# Altium schematic symbol library Movandi_Schlib1.SchLib: 9 symbols
Pins are listed as number, name and electrical type; pins without a type are passive.

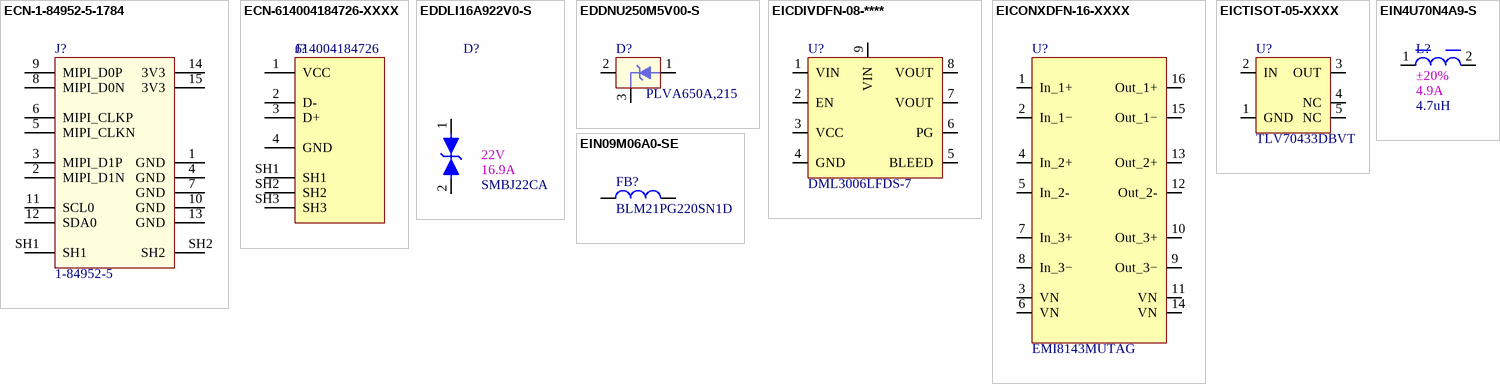
[diagram p0: symbols ECN-1-84952-5-1784 to EIN09M06A0-SE]

## ECN-1-84952-5-1784
designator J?, comment Manufacturer Part Number: 1-84952-5  (hidden comment: CONN FPC BOTTOM 15POS 1.00MM R/A)
Manufacturer: TE Connectivity AMP Connectors; Internal Part Number: ECN-1-84952-5-1784; Vendor Part Number: A101391CT-ND; Vendor Name: Digi-Key; 1st Auxiliary Field: 1.00mm Pitch; 2nd Auxiliary Field: 200V; 3rd Auxiliary Field: RoHS Compliant; 4th Auxiliary Field: 1A; Component Height (mm): 2.56mm; Temp Co: -40°C ~ 85°C; Value: 1-84952-5; Part Type: CONN FPC BOTTOM 15POS 1.00MM R/A
footprint CONN_1-84952-5 (Footprint not found)
pins: 1 GND (power), 2 MIPI_D1N (power), 3 MIPI_D1P (power), 4 GND (power), 5 MIPI_CLKN (power), 6 MIPI_CLKP (power), 7 GND (power), 8 MIPI_D0N (power), 9 MIPI_D0P (power), 10 GND (power), 11 SCL0 (power), 12 SDA0 (power), 13 GND (power), 14 3V3 (power), 15 3V3 (power), SH1 (power), SH2 (power)

## ECN-614004184726-XXXX
designator J?, comment value 614004184726  (hidden comment: CONN RCPT USB2.0 TYPEA 4POS R/A)
Vendor Part Number: 732-10010-ND; Manufacturer: Würth Elektronik; Internal Part Number: ECN-614004184726-XXXX; 1st Auxiliary Field: 30VAC; 2nd Auxiliary Field: 2A; 3rd Auxiliary Field: 5000; Vendor Name: Digi-Key; 4th Auxiliary Field: ROHS3 Compliant; Component Height (mm): 14.2mm; Temp Co: -40°C ~ 85°C; Part Type: CONN RCPT USB2.0 TYPEA 4POS R/A; Manufacturer Part Number: 614004184726
footprint CONN_614004184726 (Footprint not found)
pins: 1 VCC "data input or output (referenced to VCC(B))", 2 D- "Ground", 3 D+ "supply voltage A", 4 GND "data input or output (referenced to VCC(B))", SH1, SH2, SH3

## EDDLI16A922V0-S
designator D?, comment value SMBJ22CA  1st Auxiliary Field: 22V  2nd Auxiliary Field: 16.9A  (hidden comment: TVS DIODE 22V 35.5V DO214AA)
Manufacturer: Littelfuse Inc.; Vendor Part Number: SMBJ22CALFCT-ND; Internal Part Number: EDDLI16A922V0-S; Vendor Name: Digi-Key; 3rd Auxiliary Field: RoHS Compliant; Component Height (mm): 2.61mm; Temp Co: -65°C ~ 150°C (TJ); Part Type: TVS DIODE 22V 35.5V DO214AA; Manufacturer Part Number: SMBJ22CA; 4th Auxiliary Field: *
footprint DOIM475X394X261-2N
pins: 1, 2

## EDDNU250M5V00-S
designator D?, comment value PLVA650A,215  (hidden comment: DIODE ZENER 5V 250MW SOT23)
Manufacturer: Nexperia USA Inc.; Vendor Part Number: 1727-5167-1-ND; Internal Part Number: EDDNU250M5V00-S; Vendor Name: Digi-Key; 3rd Auxiliary Field: RoHS Compliant; Component Height (mm): 1.1mm; Temp Co: -65°C ~ 150°C; Part Type: DIODE ZENER 5V 250MW SOT23; 4th Auxiliary Field: *; 2nd Auxiliary Field: 250mW; 1st Auxiliary Field: 5V; Manufacturer Part Number: PLVA650A,215
footprint SOT190P264X112-3N (Footprint not found)
pins: 1 A, 2 NC, 3 K

## EICDIVDFN-08-****
designator U?, comment value DML3006LFDS-7  (hidden comment: IC PWR SWITCH N-CHAN 1:1 8VDFN)
Manufacturer: Diodes Incorporated; Vendor Part Number: DML3006LFDS-7DICT-ND; Internal Part Number: EICDIVDFN-08-****; Vendor Name: Digi-Key; 3rd Auxiliary Field: ROHS Compliant; Component Height (mm): 0.9mm; Temp Co: -40°C ~ 85°C (TA); 2nd Auxiliary Field: 10.5A; 1st Auxiliary Field: 3V ~ 5.5V; Part Type: IC PWR SWITCH N-CHAN 1:1 8VDFN; 4th Auxiliary Field: *; Manufacturer Part Number: DML3006LFDS-7
footprint VFDFN205X205X85-9N
pins: 1 VIN, 2 EN, 3 VCC, 4 GND, 5 BLEED, 6 PG, 7 VOUT, 8 VOUT, 9 VIN

## EICONXDFN-16-XXXX
designator U?, comment value EMI8143MUTAG  (hidden comment: CMC 100MA 6LN SMD ESD)
Manufacturer: ON Semiconductor; Internal Part Number: EICONXDFN-16-XXXX; Vendor Part Number: EMI8143MUTAGOSCT-ND; Component Height (mm): 0.5mm; 3rd Auxiliary Field: 6 Lines; 4th Auxiliary Field: ROHS3 Compliant; 1st Auxiliary Field: 6Ohm (Typ); Vendor Name: Digi-Key; Temp Co: -40°C ~ 85°C; Manufacturer Part Number: EMI8143MUTAG; Part Type: CMC 100MA 6LN SMD ESD; 2nd Auxiliary Field: 100mA
footprint XFDFN40P140X50-16N (Footprint not found)
pins: 1 In_1+ "AC-Ground", 2 In_1− "AC-Ground", 3 VN "AC-Ground", 4 In_2+ "AC-Ground", 5 In_2- "AC-Ground", 6 VN "AC-Ground", 7 In_3+ "AC-Ground", 8 In_3− "AC-Ground", 9 Out_3− "AC-Ground", 10 Out_3+ "AC-Ground", 11 VN "AC-Ground", 12 Out_2- "AC-Ground", 13 Out_2+ "AC-Ground", 14 VN "AC-Ground", 15 Out_1− "AC-Ground", 16 Out_1+ "AC-Ground"

## EICTISOT-05-XXXX
designator U?, comment value TLV70433DBVT  (hidden comment: IC REG LINEAR 3.3V 150MA SOT23-5)
Manufacturer: Texas Instruments; Internal Part Number: EICTISOT-05-XXXX; Vendor Part Number: 296-27946-1-ND; 3rd Auxiliary Field: ROHS3 Compliant; Component Height (mm): 1.45mm; Vendor Name: Digi-Key; Temp Co: -40°C ~ 125°C (TJ); 1st Auxiliary Field: 3.3V; 2nd Auxiliary Field: 150ma; Part Type: IC REG LINEAR 3.3V 150MA SOT23-5; 4th Auxiliary Field: *; Manufacturer Part Number: TLV70433DBVT
footprint SOT95P280X100-5N (Footprint not found)
pins: 1 GND (power), 2 IN, 3 OUT, 4 NC, 5 NC

## EIN4U70N4A9-S
designator L?, comment value 4.7uH  2nd Auxiliary Field: ±20%  1st Auxiliary Field: 4.9A  (hidden comment: INDUCTOR METAL 4.7 UH, 6.5A, 50.)
Manufacturer: KEMET; Manufacturer Part Number: MPX1D0624L4R7; Vendor Part Number: 399-20672-1-ND; Internal Part Number: EIN4U70N4A9-S; Vendor Name: Digi-Key; 3rd Auxiliary Field: 50.6mOhm Max; 4th Auxiliary Field: ROHS3 Compliant; Component Height (mm): 2.40mm; Temp Co: -55°C ~ 155°C; Part Type: INDUCTOR METAL 4.7 UH, 6.5A, 50.
footprint INDC8255X24N
pins: 1, 2

## EIN09M06A0-SE
designator FB?, comment value BLM21PG220SN1D  (hidden comment: FERRITE BEAD 22 OHM 0805 1LN)
Manufacturer: Murata Electronics; Internal Part Number: EIN09M06A0-SE; Vendor Part Number: 490-5987-1-ND; 3rd Auxiliary Field: ROHS3 Compliant; Component Height (mm): 1.05mm; Temp Co: -55°C ~ 125°C; Vendor Name: Digi-Key; 2nd Auxiliary Field: 9m Ohm; 1st Auxiliary Field: 6A; Manufacturer Part Number: BLM21PG220SN1D; Part Type: FERRITE BEAD 22 OHM 0805 1LN; 4th Auxiliary Field: *
footprint SMDL0805 (Footprint not found)
pins: 1, 2